# Altium schematic symbol library TPA2012D2RTJR.SchLib: 1 symbol
Pins are listed as number, name and electrical type; pins without a type are passive.

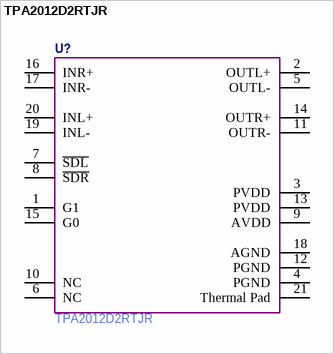
[diagram p0: symbol TPA2012D2RTJR]

## TPA2012D2RTJR
designator U?  Manufacturer Part Number: TPA2012D2RTJR  (hidden comment: *)
pins: 1 G1, 2 OUTL+, 3 PVDD, 4 PGND, 5 OUTL-, 6 NC, 7 ~{SDL}, 8 ~{SDR}, 9 AVDD, 10 NC, 11 OUTR-, 12 PGND, 13 PVDD, 14 OUTR+, 15 G0, 16 INR+, 17 INR-, 18 AGND, 19 INL-, 20 INL+, 21 Thermal Pad